# Altium schematic symbol library DRV8412DDW.Schlib: 1 symbol
Pins are listed as number, name and electrical type; pins without a type are passive.

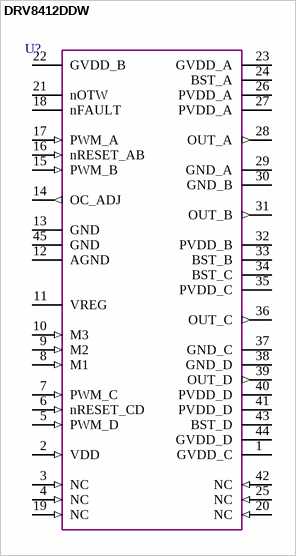
[diagram p0: symbol DRV8412DDW]

## DRV8412DDW
designator U?  (value not drawn)
pins: 1 GVDD_C (power), 2 VDD (in), 3 NC (in), 4 NC (in), 5 PWM_D (in), 6 nRESET_CD (in), 7 PWM_C (in), 8 M1 (in), 9 M2 (in), 10 M3 (in), 11 VREG (power), 12 AGND (power), 13 GND (power), 14 OC_ADJ (out), 15 PWM_B (in), 16 nRESET_AB (in), 17 PWM_A (in), 18 nFAULT (oc), 19 NC (in), 20 NC (in), 21 nOTW (oc), 22 GVDD_B (power), 23 GVDD_A (power), 24 BST_A (power), 25 NC (in), 26 PVDD_A (power), 27 PVDD_A (power), 28 OUT_A (out), 29 GND_A (power), 30 GND_B (power), 31 OUT_B (out), 32 PVDD_B (power), 33 BST_B (power), 34 BST_C (power), 35 PVDD_C (power), 36 OUT_C (out), 37 GND_C (power), 38 GND_D (power), 39 OUT_D (out), 40 PVDD_D (power), 41 PVDD_D (power), 42 NC (in), 43 BST_D (power), 44 GVDD_D (power), 45 GND (power)